# Altium schematic symbol library 929850-01-06-RB.SchLib: 1 symbol
Pins are listed as number, name and electrical type; pins without a type are passive.

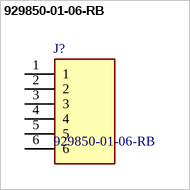
[diagram p0: symbol 929850-01-06-RB]

## 929850-01-06-RB
designator J?
Headers & Wire Housings 6P STRT BRD MNT SKT 1 ROW 30MICRO" AU; Manufacturer_Name: 3M; Geometry.Height: 8.26mm; Manufacturer_Part_Number: 929850-01-06-RB; Mouser Part Number: 517-929850-01-06-RB; Mouser Price/Stock: https://www.mouser.co.uk/ProductDetail/3M-Electronic-Solutions-Division/929850-01-06-RB?qs=s3by4FhMkp1OostaNDHGSw%3D%3D; Arrow Part Number: *; Arrow Price/Stock: *; Datasheet Link: https://www.mouser.fr/datasheet/2/1/ts0815-31700.pdf
footprint RHDR6W76P0X254_1X6_1524X254X826P
pins: 1, 2, 3, 4, 5, 6